# EAGLE library part DRV8313PWPR (library DRV8313_BLDC_Driver)
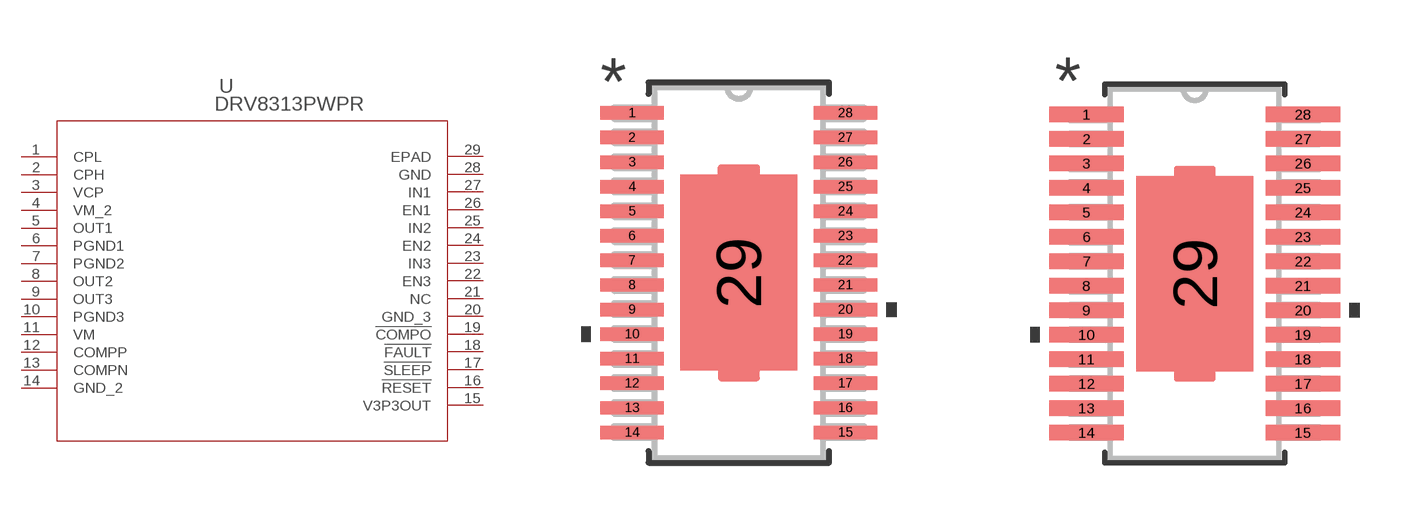
[diagram p0: symbol with the pads of PWP28_5P18X3P1; footprints PWP28_5P18X3P1, PWP28_5P18X3P1-M]

Designator prefix -

## DRV8313PWPR (MANUFACTURER_PART_NUMBER: drv8313pwp; VENDOR: TEXAS INSTRUMENTS)  [PWP28_5P18X3P1]
1  CPL
2  CPH
3  VCP
4  VM_2  pwr
5  OUT1  out
6  PGND1  pwr
7  PGND2  pwr
8  OUT2  out
9  OUT3  out
10  PGND3  pwr
11  VM  pwr
12  COMPP  in
13  COMPN  in
14  GND_2  pwr
15  V3P3OUT  out
16  !RESET  in
17  !SLEEP  in
18  !FAULT  out
19  !COMPO  out
20  GND_3  pwr
21  NC  nc
22  EN3  in
23  IN3  in
24  EN2  in
25  IN2  in
26  EN1  in
27  IN1  in
28  GND  pwr
29  EPAD  pas

## DRV8313PWPRPWP28_5P18X3P1-M (MANUFACTURER_PART_NUMBER: drv8313pwp; VENDOR: TEXAS INSTRUMENTS)  [PWP28_5P18X3P1-M]
Pads as for PWP28_5P18X3P1

## DRV8313PWPRPWP28_5P18X3P1-L (MANUFACTURER_PART_NUMBER: drv8313pwp; VENDOR: TEXAS INSTRUMENTS)  [PWP28_5P18X3P1-L]
Pads as for PWP28_5P18X3P1

## Footprint PWP28_5P18X3P1 (pad centres in mm)
smd 1.676 x 0.356: 1 -2.819,4.225; 2 -2.819,3.575; 3 -2.819,2.925; 4 -2.819,2.275; 5 -2.819,1.625; 6 -2.819,0.975; 7 -2.819,0.325; 8 -2.819,-0.325; 9 -2.819,-0.975; 10 -2.819,-1.625; 11 -2.819,-2.275; 12 -2.819,-2.925; 13 -2.819,-3.575; 14 -2.819,-4.225; 15 2.819,-4.225; 16 2.819,-3.575; 17 2.819,-2.925; 18 2.819,-2.275; 19 2.819,-1.625; 20 2.819,-0.975; 21 2.819,-0.325; 22 2.819,0.325; 23 2.819,0.975; 24 2.819,1.625; 25 2.819,2.275; 26 2.819,2.925; 27 2.819,3.575; 28 2.819,4.225
smd 3.1 x 5.18: 29 0,0

## Footprint PWP28_5P18X3P1-M (pad centres in mm)
smd 1.981 x 0.406: 1 -2.87,4.225; 2 -2.87,3.575; 3 -2.87,2.925; 4 -2.87,2.275; 5 -2.87,1.625; 6 -2.87,0.975; 7 -2.87,0.325; 8 -2.87,-0.325; 9 -2.87,-0.975; 10 -2.87,-1.625; 11 -2.87,-2.275; 12 -2.87,-2.925; 13 -2.87,-3.575; 14 -2.87,-4.225; 15 2.87,-4.225; 16 2.87,-3.575; 17 2.87,-2.925; 18 2.87,-2.275; 19 2.87,-1.625; 20 2.87,-0.975; 21 2.87,-0.325; 22 2.87,0.325; 23 2.87,0.975; 24 2.87,1.625; 25 2.87,2.275; 26 2.87,2.925; 27 2.87,3.575; 28 2.87,4.225
smd 3.1 x 5.18: 29 0,0

## Footprint PWP28_5P18X3P1-L (pad centres in mm)
smd 1.372 x 0.305: 1 -2.769,4.225; 2 -2.769,3.575; 3 -2.769,2.925; 4 -2.769,2.275; 5 -2.769,1.625; 6 -2.769,0.975; 7 -2.769,0.325; 8 -2.769,-0.325; 9 -2.769,-0.975; 10 -2.769,-1.625; 11 -2.769,-2.275; 12 -2.769,-2.925; 13 -2.769,-3.575; 14 -2.769,-4.225; 15 2.769,-4.225; 16 2.769,-3.575; 17 2.769,-2.925; 18 2.769,-2.275; 19 2.769,-1.625; 20 2.769,-0.975; 21 2.769,-0.325; 22 2.769,0.325; 23 2.769,0.975; 24 2.769,1.625; 25 2.769,2.275; 26 2.769,2.925; 27 2.769,3.575; 28 2.769,4.225
smd 3.1 x 5.18: 29 0,0